# EAGLE library part U1200_JP_CASE (library u1200)
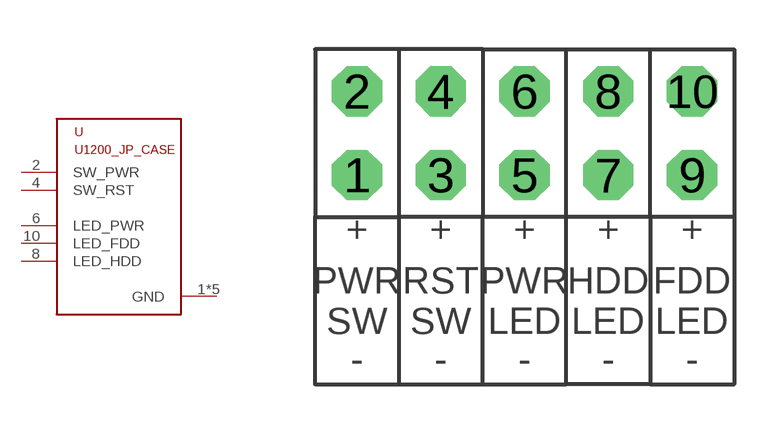
[diagram p3: symbol with the pads of U1200_PINHEAD_2X05_ANNOTATED; footprint U1200_PINHEAD_2X05_ANNOTATED]

Designator prefix -

## U1200_JP_CASEU1200_JP_CASE  [U1200_PINHEAD_2X05_ANNOTATED]
1  GND
2  SW_PWR
3  GND
4  SW_RST
5  GND
6  LED_PWR
7  GND
8  LED_HDD
9  GND
10  LED_FDD

## Footprint U1200_PINHEAD_2X05_ANNOTATED (pad centres in mm)
PIN HEADER
drill 1.016 octagon: 1 -5.08,-1.27; 2 -5.08,1.27; 3 -2.54,-1.27; 4 -2.54,1.27; 5 0,-1.27; 6 0,1.27; 7 2.54,-1.27; 8 2.54,1.27; 9 5.08,-1.27; 10 5.08,1.27